# EAGLE library part 10029449 (library Connector_2x16)
Connector, Hdmi Type a, Receptacle, 19 Position, Full Ree Datasheet <https://cdn.amphenol-icc.com/media/wysiwyg/files/documentation/datasheet/inputoutput/io_hdmi_receptacles.pdf>
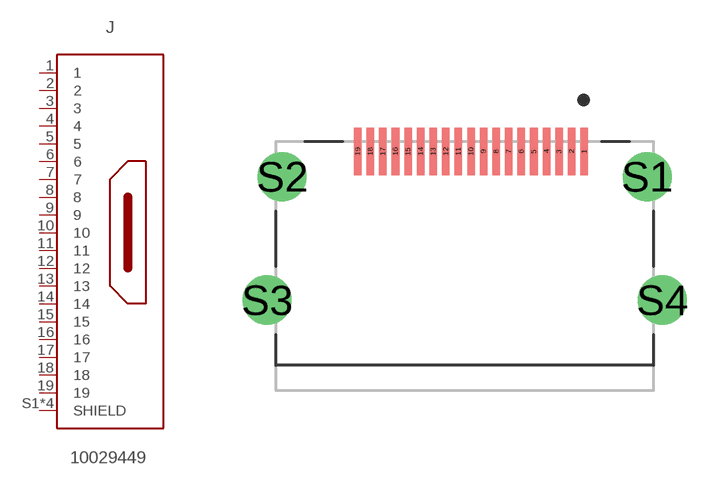
[diagram p13: symbol with the pads of 10029449-001RLF; footprint 10029449-001RLF]

Designator prefix J

## 10029449 (CATEGORY: USB, DVI, HDMI Connectors; DESCRIPTION: HDMI HDMI 1.4 Receptacle Connector 19 Position Surface Mount, Right Angle; Through Hole; MANUFACTURER: Amphenol ICC (FCI); MPN: 10029449-001RLF; OPERATING_TEMPERATURE: -20°C ~ 85°C; PART_STATUS: ACTIVE; ROHS_COMPLIANT: COMPLIANT; SERIES: 10029449-X01XLF; SUB_CATEGORY: Audio & Video Connectors; TYPE: HDMI, Displayport & DVI Connectors; VALUE: 10029449-001RLF)  [10029449-001RLF]
1  1  pas
2  2  pas
3  3  pas
4  4  pas
5  5  pas
6  6  pas
7  7  pas
8  8  pas
9  9  pas
10  10  pas
11  11  pas
12  12  pas
13  13  pas
14  14  pas
15  15  pas
16  16  pas
17  17  pas
18  18  pas
19  19  pas
S1  SHIELD  nc
S2  SHIELD  nc
S3  SHIELD  nc
S4  SHIELD  nc

## Footprint 10029449-001RLF (pad centres in mm)
smd 0.3 x 1.9: 1 4.79,4.14; 2 4.29,4.14; 3 3.79,4.14; 4 3.29,4.14; 5 2.79,4.14; 6 2.29,4.14; 7 1.79,4.14; 8 1.29,4.14; 9 0.79,4.14; 10 0.29,4.14; 11 -0.21,4.14; 12 -0.71,4.14; 13 -1.21,4.14; 14 -1.71,4.14; 15 -2.21,4.14; 16 -2.71,4.14; 17 -3.21,4.14; 18 -3.71,4.14; 19 -4.21,4.14
drill 1.3: S1 7.29,3.14; S2 -7.21,3.14; S3 -7.81,-1.76; S4 7.89,-1.76